# EAGLE library part MCP617 (library Bob_Headset)
Microchip dual opamp
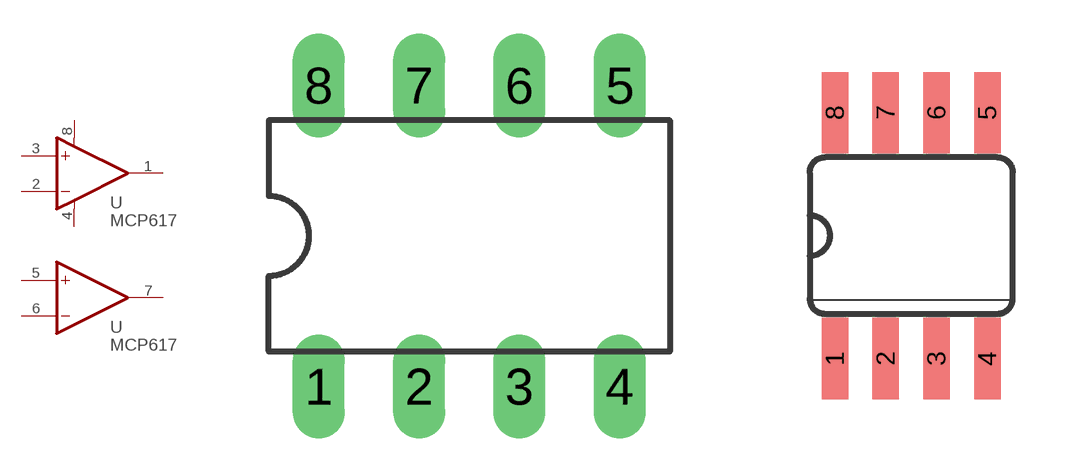
[diagram p1: symbol with the pads of DIL08; footprints DIL08, SO08]

Designator prefix -

## MCP617-I/P  [DIL08]
1  OUT  out
2  -IN  in
3  +IN  in
4  V-  pwr
5  +IN1  in
6  -IN1  in
7  OUT1  out
8  V+  pwr

## MCP617  [SO08]
Pads as for DIL08

## Footprint DIL08 (pad centres in mm)
Dual In Line Package
drill 0.813 long: 1 -3.81,-3.81; 2 -1.27,-3.81; 3 1.27,-3.81; 4 3.81,-3.81; 5 3.81,3.81; 6 1.27,3.81; 7 -1.27,3.81; 8 -3.81,3.81

## Footprint SO08 (pad centres in mm)
Small Outline Package SOIC 150 mil
smd 0.66 x 2.032: 1 -1.905,-3.073; 2 -0.635,-3.073; 3 0.635,-3.073; 4 1.905,-3.073; 5 1.905,3.073; 6 0.635,3.073; 7 -0.635,3.073; 8 -1.905,3.073